# EAGLE library part HCTL-2021 (library noah)
HCTL-2021 Quadrature decoder from Avago Technologies. 20 pin PLC package.
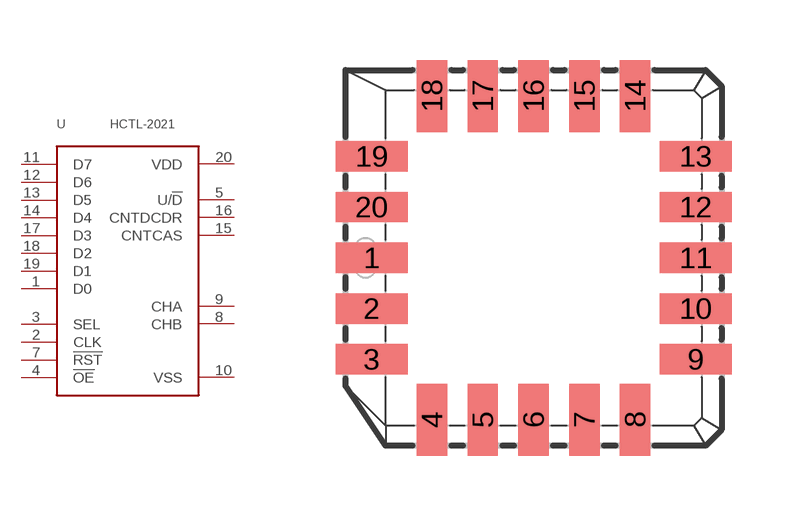
[diagram p8: symbol with the pads of PLCC20; footprint PLCC20]

Designator prefix -

## HCTL-2021  [PLCC20]
1  D0
2  CLK
3  SEL
4  !OE
5  U/!D
7  !RST
8  CHB
9  CHA
10  VSS
11  D7
12  D6
13  D5
14  D4
15  CNTCAS
16  CNTDCDR
17  D3
18  D2
19  D1
20  VDD

## Footprint PLCC20 (pad centres in mm)
Plastic Leaded Chip Carrier
smd 1.8 x 0.76: 1 -4.05,0; 2 -4.05,-1.27; 3 -4.05,-2.54; 9 4.05,-2.54; 10 4.05,-1.27; 11 4.05,0; 12 4.05,1.27; 13 4.05,2.54; 19 -4.05,2.54; 20 -4.05,1.27
smd 0.76 x 1.8: 4 -2.54,-4.05; 5 -1.27,-4.05; 6 0,-4.05; 7 1.27,-4.05; 8 2.54,-4.05; 14 2.54,4.05; 15 1.27,4.05; 16 0,4.05; 17 -1.27,4.05; 18 -2.54,4.05